# Altium schematic symbol library conn-11x1_0.Schlib: 1 symbol
Pins are listed as number, name and electrical type; pins without a type are passive.

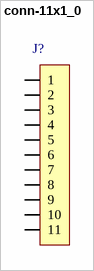
[diagram p0: symbol conn-11x1_0]

## conn-11x1_0
designator J?  (value not drawn)
Connector, 11x1
pins: 1, 2, 3, 4, 5, 6, 7, 8, 9, 10, 11